# EAGLE library part TAS5727 (library everykey)
TI Class D Amp, digital input
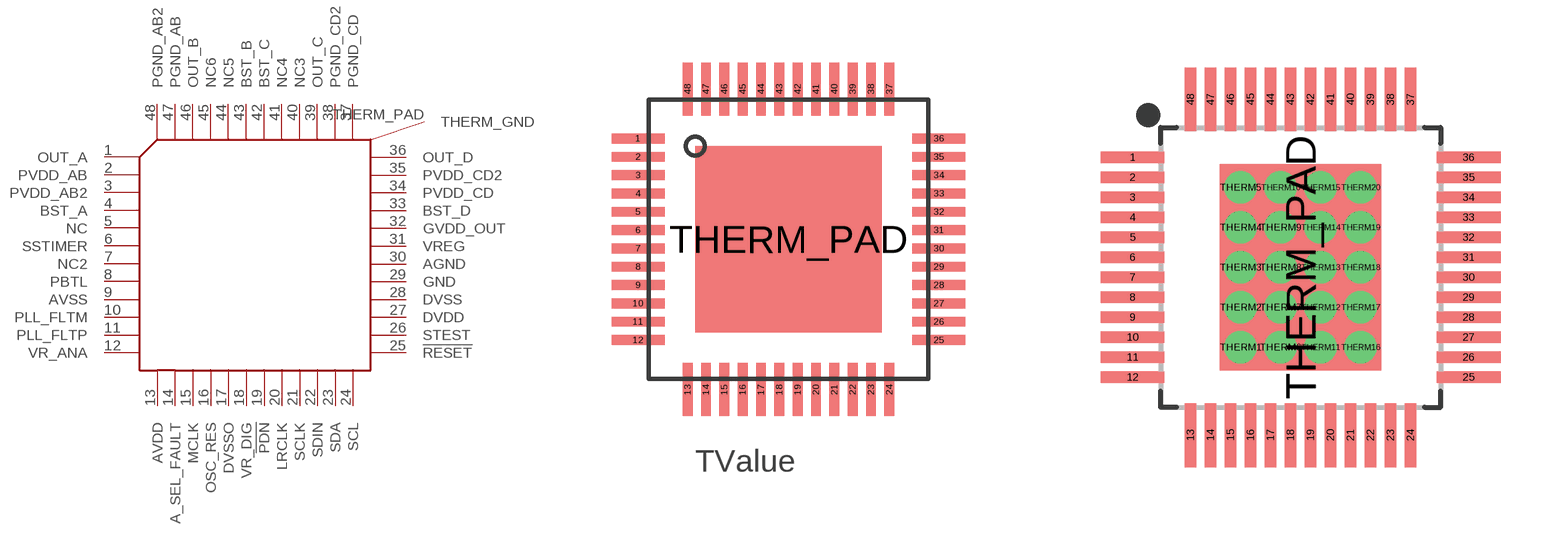
[diagram p3: symbol with the pads of HTQFP48; footprints HTQFP48, HTQFP48-0.5-EP-VIAS-TAS57XX]

Designator prefix -

## TAS5727HTQFP48  [HTQFP48]
1  OUT_A  out
2  PVDD_AB  pwr
3  PVDD_AB2  pwr
4  BST_A
5  NC  nc
6  SSTIMER  in
7  NC2  nc
8  PBTL  in
9  AVSS  pwr
10  PLL_FLTM  out
11  PLL_FLTP  out
12  VR_ANA  pwr
13  AVDD  pwr
14  A_SEL_FAULT
15  MCLK  in
16  OSC_RES  out
17  DVSSO  pwr
18  VR_DIG  pwr
19  !PDN  in
20  LRCLK  in
21  SCLK  in
22  SDIN  in
23  SDA
24  SCL  in
25  !RESET  in
26  STEST  in
27  DVDD  pwr
28  DVSS  pwr
29  GND  pwr
30  AGND  pwr
31  VREG  pwr
32  GVDD_OUT  pwr
33  BST_D
34  PVDD_CD  pwr
35  PVDD_CD2  pwr
36  OUT_D  out
37  PGND_CD  pwr
38  PGND_CD2  pwr
39  OUT_C  out
40  NC3  nc
41  NC4  nc
42  BST_C  in
43  BST_B  in
44  NC5  nc
45  NC6  nc
46  OUT_B  out
47  PGND_AB  pwr
48  PGND_AB2  pwr
THERM_PAD  THERM_GND  pwr

## TAS5727HTQFP-VIAS  [HTQFP48-0.5-EP-VIAS-TAS57XX]
1  OUT_A  out
2  PVDD_AB  pwr
3  PVDD_AB2  pwr
4  BST_A
5  NC  nc
6  SSTIMER  in
7  NC2  nc
8  PBTL  in
9  AVSS  pwr
10  PLL_FLTM  out
11  PLL_FLTP  out
12  VR_ANA  pwr
13  AVDD  pwr
14  A_SEL_FAULT
15  MCLK  in
16  OSC_RES  out
17  DVSSO  pwr
18  VR_DIG  pwr
19  !PDN  in
20  LRCLK  in
21  SCLK  in
22  SDIN  in
23  SDA
24  SCL  in
25  !RESET  in
26  STEST  in
27  DVDD  pwr
28  DVSS  pwr
29  GND  pwr
30  AGND  pwr
31  VREG  pwr
32  GVDD_OUT  pwr
33  BST_D
34  PVDD_CD  pwr
35  PVDD_CD2  pwr
36  OUT_D  out
37  PGND_CD  pwr
38  PGND_CD2  pwr
39  OUT_C  out
40  NC3  nc
41  NC4  nc
42  BST_C  in
43  BST_B  in
44  NC5  nc
45  NC6  nc
46  OUT_B  out
47  PGND_AB  pwr
48  PGND_AB2  pwr
THERM1  THERM_GND  pwr
THERM2  THERM_GND  pwr
THERM3  THERM_GND  pwr
THERM4  THERM_GND  pwr
THERM5  THERM_GND  pwr
THERM6  THERM_GND  pwr
THERM7  THERM_GND  pwr
THERM8  THERM_GND  pwr
THERM9  THERM_GND  pwr
THERM10  THERM_GND  pwr
THERM11  THERM_GND  pwr
THERM12  THERM_GND  pwr
THERM13  THERM_GND  pwr
THERM14  THERM_GND  pwr
THERM15  THERM_GND  pwr
THERM16  THERM_GND  pwr
THERM17  THERM_GND  pwr
THERM18  THERM_GND  pwr
THERM19  THERM_GND  pwr
THERM20  THERM_GND  pwr
THERM_PAD  THERM_GND  pwr

## Footprint HTQFP48 (pad centres in mm)
smd 1.448 x 0.269: 1 -4.1,2.75; 2 -4.1,2.25; 3 -4.1,1.75; 4 -4.1,1.25; 5 -4.1,0.75; 6 -4.1,0.25; 7 -4.1,-0.25; 8 -4.1,-0.75; 9 -4.1,-1.25; 10 -4.1,-1.75; 11 -4.1,-2.25; 12 -4.1,-2.75; 25 4.1,-2.75; 26 4.1,-2.25; 27 4.1,-1.75; 28 4.1,-1.25; 29 4.1,-0.75; 30 4.1,-0.25; 31 4.1,0.25; 32 4.1,0.749; 33 4.1,1.25; 34 4.1,1.75; 35 4.1,2.25; 36 4.1,2.75
smd 0.269 x 1.448: 13 -2.75,-4.1; 14 -2.25,-4.1; 15 -1.75,-4.1; 16 -1.25,-4.1; 17 -0.75,-4.1; 18 -0.25,-4.1; 19 0.25,-4.1; 20 0.75,-4.1; 21 1.25,-4.1; 22 1.75,-4.1; 23 2.25,-4.1; 24 2.75,-4.1; 37 2.75,4.1; 38 2.25,4.1; 39 1.75,4.1; 40 1.25,4.1; 41 0.75,4.1; 42 0.25,4.1; 43 -0.25,4.1; 44 -0.75,4.1; 45 -1.25,4.1; 46 -1.75,4.1; 47 -2.25,4.1; 48 -2.75,4.1
smd 5.08 x 5.08: THERM_PAD 0,0

## Footprint HTQFP48-0.5-EP-VIAS-TAS57XX (pad centres in mm)
TQFP48 package, exposed pad, 0.5mm pitch, thermal vias. TI PHP package, custom thermal pad for TAS5727/TAS5715.
smd 1.6 x 0.28: 1 -4.2,2.75; 2 -4.2,2.25; 3 -4.2,1.75; 4 -4.2,1.25; 5 -4.2,0.75; 6 -4.2,0.25; 7 -4.2,-0.25; 8 -4.2,-0.75; 9 -4.2,-1.25; 10 -4.2,-1.75; 11 -4.2,-2.25; 12 -4.2,-2.75; 25 4.2,-2.75; 26 4.2,-2.25; 27 4.2,-1.75; 28 4.2,-1.25; 29 4.2,-0.75; 30 4.2,-0.25; 31 4.2,0.25; 32 4.2,0.75; 33 4.2,1.25; 34 4.2,1.75; 35 4.2,2.25; 36 4.2,2.75
smd 0.28 x 1.6: 13 -2.75,-4.2; 14 -2.25,-4.2; 15 -1.75,-4.2; 16 -1.25,-4.2; 17 -0.75,-4.2; 18 -0.25,-4.2; 19 0.25,-4.2; 20 0.75,-4.2; 21 1.25,-4.2; 22 1.75,-4.2; 23 2.25,-4.2; 24 2.75,-4.2; 37 2.75,4.2; 38 2.25,4.2; 39 1.75,4.2; 40 1.25,4.2; 41 0.75,4.2; 42 0.25,4.2; 43 -0.25,4.2; 44 -0.75,4.2; 45 -1.25,4.2; 46 -1.75,4.2; 47 -2.25,4.2; 48 -2.75,4.2
drill 0.305: THERM1 -1.5,-2; THERM2 -1.5,-1; THERM3 -1.5,0; THERM4 -1.5,1; THERM5 -1.5,2; THERM6 -0.5,-2; THERM7 -0.5,-1; THERM8 -0.5,0; THERM9 -0.5,1; THERM10 -0.5,2; THERM11 0.5,-2; THERM12 0.5,-1; THERM13 0.5,0; THERM14 0.5,1; THERM15 0.5,2; THERM16 1.5,-2; THERM17 1.5,-1; THERM18 1.5,0; THERM19 1.5,1; THERM20 1.5,2
smd 4.04 x 5.17: THERM_PAD 0,0